# Altium footprint library SO-24.PcbLib: 1 footprints
Each footprint in its own frame and in the unit in brackets; x right, y up, seen from the top. Pads: shape width x height; smd on the part's side, far side on the other; paste and mask are expansions set on the pad; w line width, h text height; cw(c..) or ccw(c..) is an arc to the next point about the centre after c.
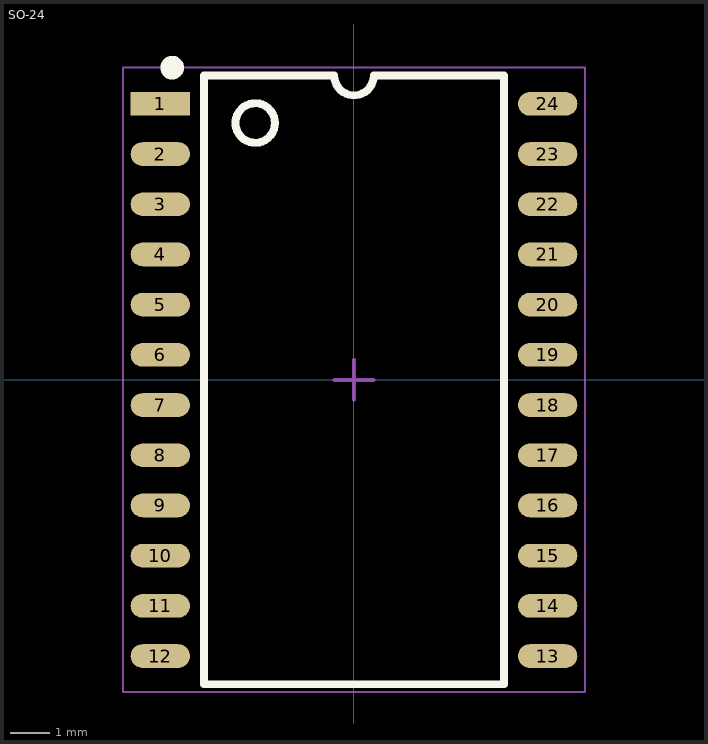
[diagram p0: the footprint, top view; thin cyan lines are the x and y axes]

## SO-24 [mm]
pads (24):
  rect 1.5x0.6 smd: 1(-4.9,6.985)
  oval 1.5x0.6 smd: 2(-4.9,5.715) 3(-4.9,4.445) 4(-4.9,3.175) 5(-4.9,1.905) 6(-4.9,0.635) 7(-4.9,-0.635) 8(-4.9,-1.905) 9(-4.9,-3.175) 10(-4.9,-4.445) 11(-4.9,-5.715) 12(-4.9,-6.985) 13(4.9,-6.985) 14(4.9,-5.715) 15(4.9,-4.445) 16(4.9,-3.175) 17(4.9,-1.905) 18(4.9,-0.635) 19(4.9,0.635) 20(4.9,1.905) 21(4.9,3.175) 22(4.9,4.445) 23(4.9,5.715) 24(4.9,6.985)
Top Overlay:
  circle w0.2: c-2.5,6.5 r0.5
  circle w0.3: c-4.6,7.9 r0.15
  lines w0.2: -3.8,-7.7 -3.8,7.7 -0.5,7.7 ccw(c0,7.7) 0.5,7.7 3.8,7.7 3.8,-7.7 -3.8,-7.7
Mechanical 15:
  lines w0.05: -5.85,-7.9 -5.85,7.9 5.85,7.9 5.85,-7.9 -5.85,-7.9
  lines w0.1: -0.5,0 0.5,0 ; 0,-0.5 0,0.5
3D body "SOIC-24.SLDPRT": height 2.62, standoff -0.03, extent -5.15,-7.71 5.15,7.71